# EAGLE library part FE20-2 (library con-edge-100)
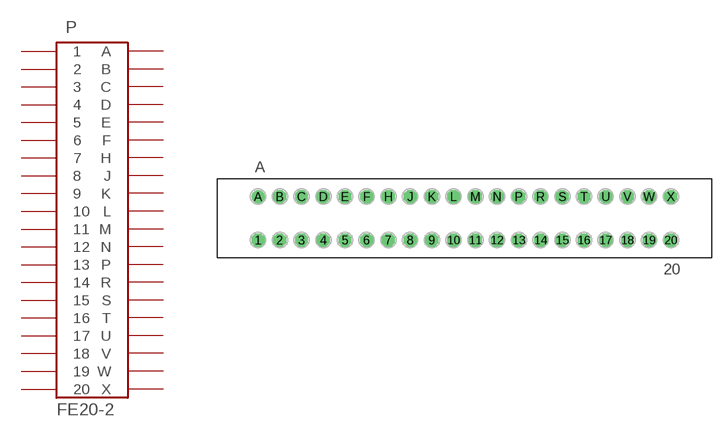
[diagram p4: symbol with the pads of FE20-2; footprint FE20-2]

Designator prefix P

## FE20-2  [FE20-2]
1  1  pas
2  2  pas
3  3  pas
4  4  pas
5  5  pas
6  6  pas
7  7  pas
8  8  pas
9  9  pas
10  10  pas
11  11  pas
12  12  pas
13  13  pas
14  14  pas
15  15  pas
16  16  pas
17  17  pas
18  18  pas
19  19  pas
20  20  pas
A  A  pas
B  B  pas
C  C  pas
D  D  pas
E  E  pas
F  F  pas
H  H  pas
J  J  pas
K  K  pas
L  L  pas
M  M  pas
N  N  pas
P  P  pas
R  R  pas
S  S  pas
T  T  pas
U  U  pas
V  V  pas
W  W  pas
X  X  pas

## Footprint FE20-2 (pad centres in mm)
drill 1 octagon: 1 -24.13,-2.54; 2 -21.59,-2.54; 3 -19.05,-2.54; 4 -16.51,-2.54; 5 -13.97,-2.54; 6 -11.43,-2.54; 7 -8.89,-2.54; 8 -6.35,-2.54; 9 -3.81,-2.54; 10 -1.27,-2.54; 11 1.27,-2.54; 12 3.81,-2.54; 13 6.35,-2.54; 14 8.89,-2.54; 15 11.43,-2.54; 16 13.97,-2.54; 17 16.51,-2.54; 18 19.05,-2.54; 19 21.59,-2.54; 20 24.13,-2.54; B -21.59,2.54; C -19.05,2.54; D -16.51,2.54; E -13.97,2.54; F -11.43,2.54; H -8.89,2.54; J -6.35,2.54; K -3.81,2.54; L -1.27,2.54; M 1.27,2.54; N 3.81,2.54; P 6.35,2.54; R 8.89,2.54; S 11.43,2.54; T 13.97,2.54; U 16.51,2.54; V 19.05,2.54; W 21.59,2.54; X 24.13,2.54
drill 1: A -24.13,2.54